# Altium schematic symbol library 865080553013.SchLib: 1 symbol
Pins are listed as number, name and electrical type; pins without a type are passive.

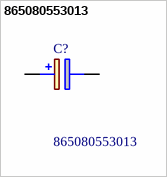
[diagram p0: symbol 865080553013]

## 865080553013
designator C?
WCAP-ASLI Aluminum Electrolytic Capacitors ASEE105151M035DVCTEB000; SMT V-Chip; 150 F +/- 20%; 35 V(DC); 2000 h; -55C / +105C; size DxL 8.0 x 10.5; Max. Iripple 510 mA @100 kHz; LC 52.5 A; DF 14 %; Manufacturer_Name: Wurth Elektronik; Geometry.Height: 10.5mm; Manufacturer_Part_Number: 865080553013; Mouser Part Number: 710-865080553013; Mouser Price/Stock: https://www.mouser.co.uk/ProductDetail/Wurth-Elektronik/865080553013?qs=0KOYDY2FL29Thrvp1T0nKg%3D%3D; Arrow Part Number: *; Arrow Price/Stock: *; Datasheet Link: https://www.we-online.com/components/products/download/3D_WCAP_ASLI_8x10x3+%28rev1%29.pdf
footprint CAPAE830X1050N
pins: 1 +, 2 -